# EAGLE library part TINY44 (library im)
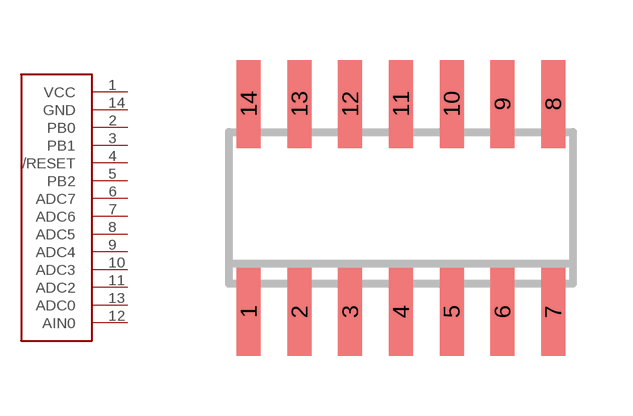
[diagram p0: symbol with the pads of SO14; footprint SO14]

Designator prefix -

## TINY44  [SO14]
1  VCC
2  PB0
3  PB1
4  /RESET
5  PB2
6  ADC7
7  ADC6
8  ADC5
9  ADC4
10  ADC3
11  ADC2
12  AIN0
13  ADC0
14  GND

## Footprint SO14 (pad centres in mm)
SMALL OUTLINE INTEGRATED CIRCUIT body 3.9 mm/JEDEC MS-012AC
smd 0.6 x 2.2: 1 -3.81,-2.6; 2 -2.54,-2.6; 3 -1.27,-2.6; 4 0,-2.6; 5 1.27,-2.6; 6 2.54,-2.6; 7 3.81,-2.6; 8 3.81,2.6; 9 2.54,2.6; 10 1.27,2.6; 11 0,2.6; 12 -1.27,2.6; 13 -2.54,2.6; 14 -3.81,2.6